# EAGLE library part ATTEND-MICROSD-112 (library sdCard)
Attend microSD socket Datasheet: Attend 112 microSD socket <http://www.soselectronic.com/a_info/resource/f/112I-TXAR-R_B_1.pdf>.
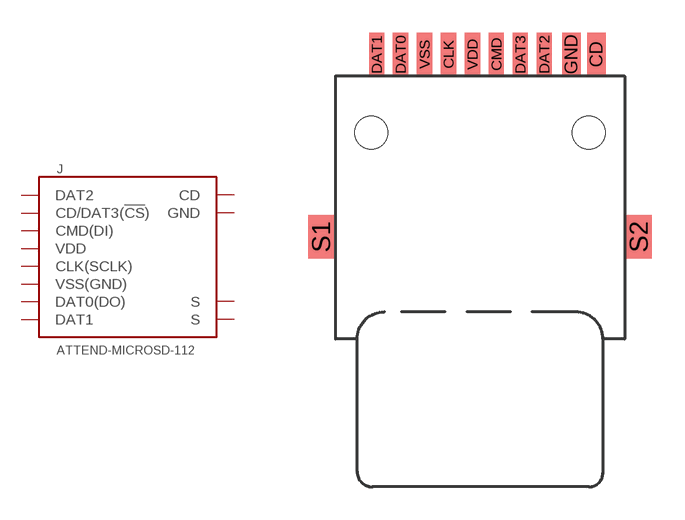
[diagram p3: symbol with the pads of ATTEND-112; footprint ATTEND-112]

Designator prefix J

## ATTEND-MICROSD-112  [ATTEND-112]
CD  CD  oc
CLK  CLK(SCLK)
CMD  CMD(DI)
DAT0  DAT0(DO)
DAT1  DAT1
DAT2  DAT2
DAT3  CD/DAT3(!CS!)
GND  GND  pas
S1  S  pas
S2  S  pas
VDD  VDD  pwr
VSS  VSS(GND)  pwr

## Footprint ATTEND-112 (pad centres in mm)
smd 0.85 x 2: CD 5.35,8.62; GND 4.2,8.62
smd 0.7 x 2: CLK -1.45,8.62; CMD 0.75,8.62; DAT0 -3.65,8.62; DAT1 -4.75,8.62; DAT2 2.95,8.62; DAT3 1.85,8.62; VDD -0.35,8.62; VSS -2.55,8.62
smd 1.2 x 2: S1 -7.3,0.22; S2 7.3,0.22
hole 1.5 at -5,5.02
hole 1.5 at 5,5.02